# Altium schematic symbol library vibration_motors.SchLib: 2 symbols
Pins are listed as number, name and electrical type; pins without a type are passive.

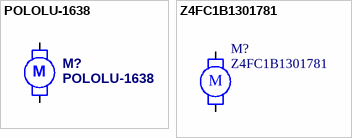
[diagram p0: symbols POLOLU-1638 to Z4FC1B1301781]

## POLOLU-1638
designator M?
2,4V-3,5V DC Vibration Motor; Published: 24-Mar-1999; LatestRevisionDate: 17-Jul-2002; LatestRevisionNote: Re-released for DXP Platform.; PackageReference: RB5-10.5; Publisher: Altium Limited; PackageDescription: Capacitor (Radial); 2 Leads
footprint POLOLU-1638
pins: 1, 2
text: M

## Z4FC1B1301781
designator M?
3.0V DC Vibration Motor; Published: 24-Mar-1999; LatestRevisionDate: 17-Jul-2002; LatestRevisionNote: Re-released for DXP Platform.; PackageReference: RB5-10.5; Publisher: Altium Limited; PackageDescription: Capacitor (Radial); 2 Leads
footprint Z4FC1B1301781 (3.0V DC Vibration Motor)
pins: 1, 2
text: M